# Altium schematic symbol library M_WIRE.SchLib: 1 symbol
Pins are listed as number, name and electrical type; pins without a type are passive.

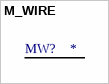
[diagram p0: symbol M_WIRE]

## M_WIRE
designator MW?
pins: 1, 2